# Altium footprint library 45Hole.PcbLib: 1 footprints
Each footprint in its own frame and in the unit in brackets; x right, y up, seen from the top. Pads: shape width x height; smd on the part's side, far side on the other; paste and mask are expansions set on the pad; w line width, h text height; cw(c..) or ccw(c..) is an arc to the next point about the centre after c.
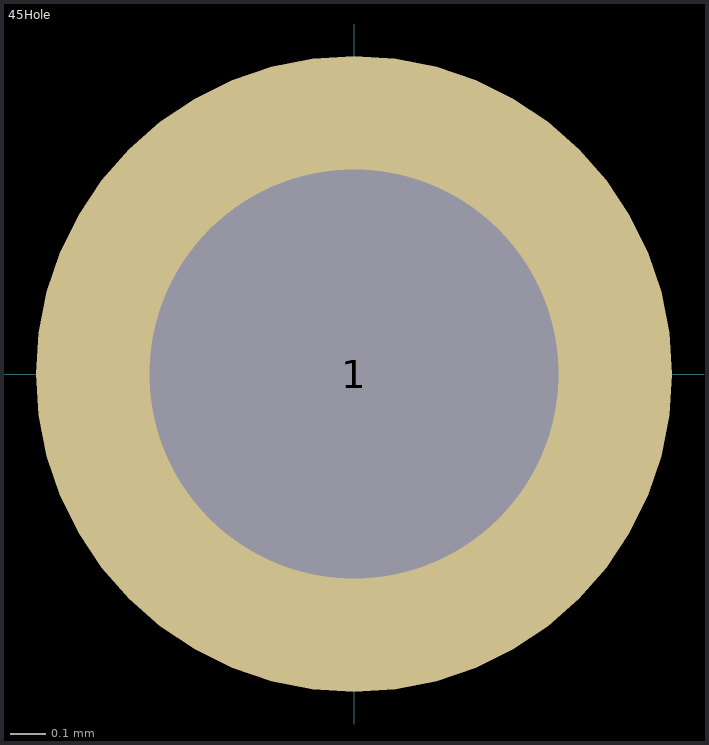
[diagram p0: the footprint, top view; thin cyan lines are the x and y axes]

## 45Hole [mil]
pads (1):
  round 70 hole 45: 1(0,0)
3D body: height 1, standoff 0, extent -22.81,-22.95 23,22.96